# Altium schematic symbol library Pulse transformer.SchLib: 1 symbol
Pins are listed as number, name and electrical type; pins without a type are passive.

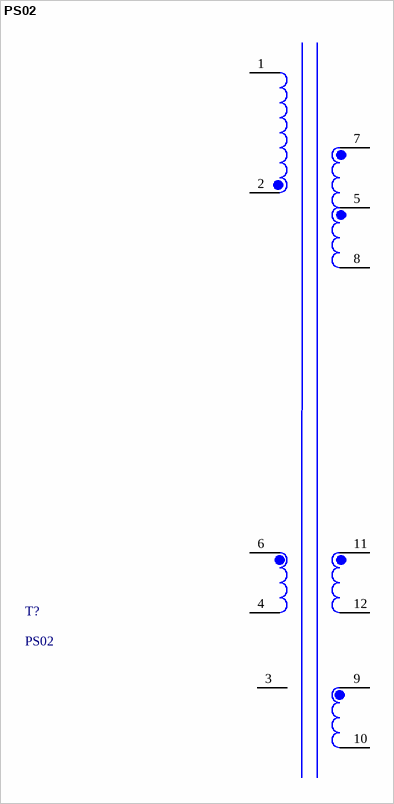
[diagram p0: symbol PS02]

## PS02
designator T?
TRANSFORMER PS02 EFD20 12PIN; MP: 750316093; MF: Wurth Electronics; Value: *; SnapEDA_Link: https://www.snapeda.com/parts/750316093/Wurth+Electronics+Midcom/view-part/?ref=snap; Availability: In Stock; Package: None; Purchase-URL: https://pricing.snapeda.com/search/part/750316093/?ref=eda; Price: None; Check_prices: https://www.snapeda.com/parts/750316093/Wurth+Electronics+Midcom/view-part/?ref=eda
footprint CEFD2010
pins: 1, 2, 3 9, 4 8, 5, 6, 7, 8, 9, 10, 11, 12